# EAGLE library part TPS25921ADR (library TPS25921ADR)
18V, 1.6A, 90m eFuse with Adjustable +/-2% Accurate Current Limit Source: Datasheet <http://www.ti.com/lit/gpn/tps25921a>
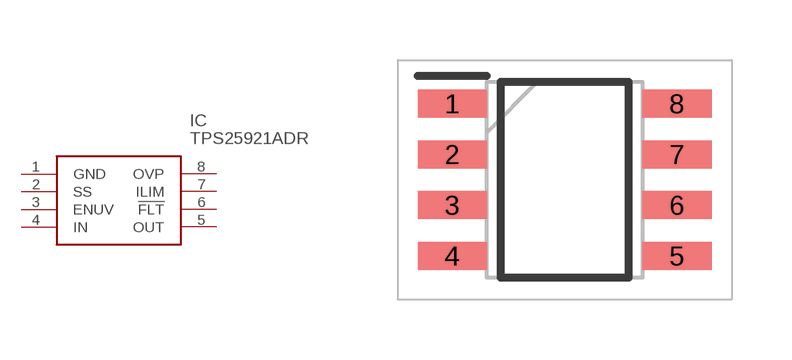
[diagram p0: symbol with the pads of SOIC127P600X175-8M; footprint SOIC127P600X175-8M]

Designator prefix IC

## TPS25921ADR (Description: 18V, 1.6A, 90m eFuse with Adjustable +/-2% Accurate Current Limit; Height: 1.75mm; Manufacturer_Name: Texas Instruments; Manufacturer_Part_Number: TPS25921ADR; Mouser_Part_Number: 595-TPS25921ADR; Mouser_Price-Stock: https://www.mouser.co.uk/ProductDetail/Texas-Instruments/TPS25921ADR?qs=m%2F7bTylgptfvwfVPRm0ALQ%3D%3D)  [SOIC127P600X175-8M]
1  GND
2  SS
3  ENUV
4  IN
5  OUT
6  !FLT
7  ILIM
8  OVP

## Footprint SOIC127P600X175-8M (pad centres in mm)
D0008A
smd 1.728 x 0.7: 1 -2.811,1.905; 2 -2.811,0.635; 3 -2.811,-0.635; 4 -2.811,-1.905; 5 2.811,-1.905; 6 2.811,-0.635; 7 2.811,0.635; 8 2.811,1.905